# Altium footprint library RTS_Module_DS3231.PcbLib: 1 footprints
Each footprint in its own frame and in the unit in brackets; x right, y up, seen from the top. Pads: shape width x height; smd on the part's side, far side on the other; paste and mask are expansions set on the pad; w line width, h text height; cw(c..) or ccw(c..) is an arc to the next point about the centre after c.
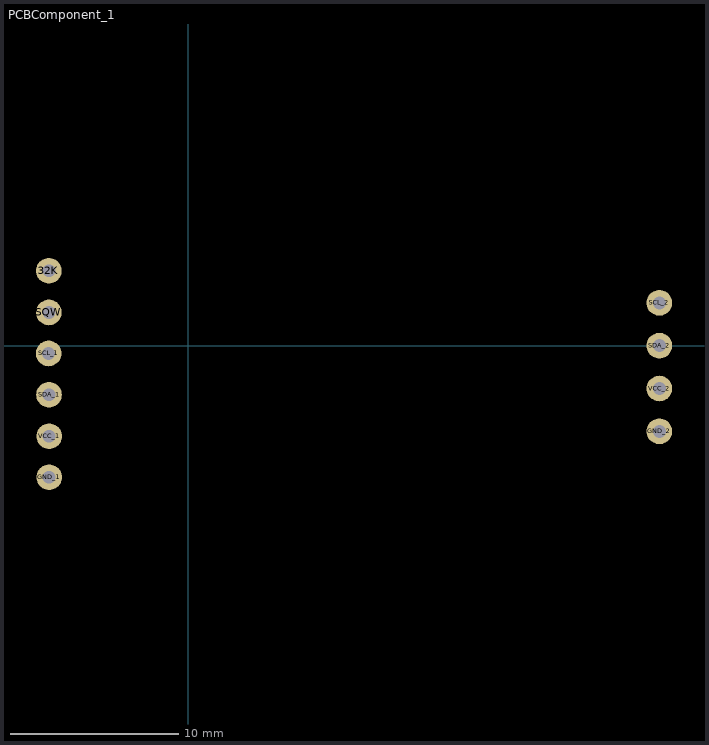
[diagram p0: the footprint, top view; thin cyan lines are the x and y axes]

## PCBComponent_1 [mil]
pads (10):
  round 60 hole 30 paste-99999: 32K(-325.2,174.8) GND_1(-324.41,-307.09) GND_2(1100,-200) SCL_1(-325.59,-18.11) SCL_2(1100,100) SDA_1(-324.8,-114.57) SDA_2(1100,0) SQW(-325.2,77.56) VCC_1(-324.41,-211.42) VCC_2(1100,-100)
3D body "HW-84 v7.step": height 191.73, standoff -376.16, extent -655.12,-484.45 1159.06,375.79